# EAGLE library part 68HC05B6 (library my_mixed)
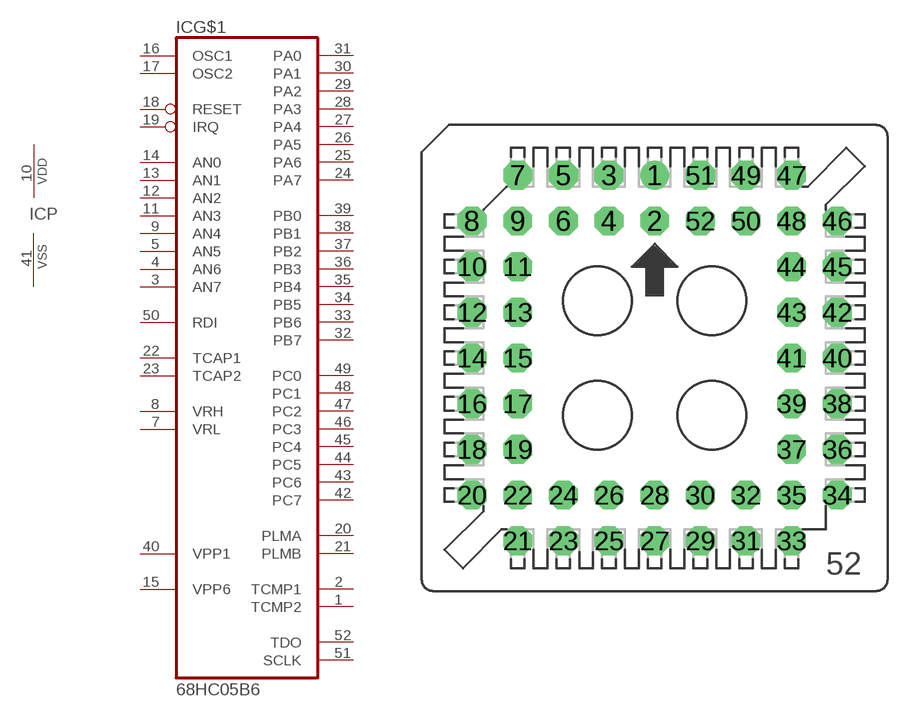
[diagram p34: symbol with the pads of S52; footprint S52]

Designator prefix IC; gates G$1=68HC05B6 P=VDDVSS

## 68HC05B6  [S52]
1  G$1:TCMP2  out
2  G$1:TCMP1  out
3  G$1:AN7  in
4  G$1:AN6  in
5  G$1:AN5  in
7  G$1:VRL  in
8  G$1:VRH  in
9  G$1:AN4  in
10  P:VDD  pwr
11  G$1:AN3  in
12  G$1:AN2  in
13  G$1:AN1  in
14  G$1:AN0  in
15  G$1:VPP6  pwr
16  G$1:OSC1  in
17  G$1:OSC2  pas
18  G$1:RESET
19  G$1:IRQ  in
20  G$1:PLMA  out
21  G$1:PLMB  out
22  G$1:TCAP1  in
23  G$1:TCAP2  in
24  G$1:PA7
25  G$1:PA6
26  G$1:PA5
27  G$1:PA4
28  G$1:PA3
29  G$1:PA2
30  G$1:PA1
31  G$1:PA0
32  G$1:PB7
33  G$1:PB6
34  G$1:PB5
35  G$1:PB4
36  G$1:PB3
37  G$1:PB2
38  G$1:PB1
39  G$1:PB0
40  G$1:VPP1  pwr
41  P:VSS  pwr
42  G$1:PC7
43  G$1:PC6
44  G$1:PC5
45  G$1:PC4
46  G$1:PC3
47  G$1:PC2
48  G$1:PC1
49  G$1:PC0
50  G$1:RDI  in
51  G$1:SCLK  out
52  G$1:TDO  out

## Footprint S52 (pad centres in mm)
drill 0.406 pad 1.6: 1 0,10.16
drill 0.406 pad 1.6 octagon: 2 0,7.62; 3 -2.54,10.16; 4 -2.54,7.62; 5 -5.08,10.16; 6 -5.08,7.62; 7 -7.62,10.16; 8 -10.16,7.62; 9 -7.62,7.62; 10 -10.16,5.08; 11 -7.62,5.08; 12 -10.16,2.54; 13 -7.62,2.54; 14 -10.16,0; 15 -7.62,0; 16 -10.16,-2.54; 17 -7.62,-2.54; 18 -10.16,-5.08; 19 -7.62,-5.08; 20 -10.16,-7.62; 21 -7.62,-10.16; 22 -7.62,-7.62; 23 -5.08,-10.16; 24 -5.08,-7.62; 25 -2.54,-10.16; 26 -2.54,-7.62; 27 0,-10.16; 28 0,-7.62; 29 2.54,-10.16; 30 2.54,-7.62; 31 5.08,-10.16; 32 5.08,-7.62; 33 7.62,-10.16; 34 10.16,-7.62; 35 7.62,-7.62; 36 10.16,-5.08; 37 7.62,-5.08; 38 10.16,-2.54; 39 7.62,-2.54; 40 10.16,0; 41 7.62,0; 42 10.16,2.54; 43 7.62,2.54; 44 7.62,5.08; 45 10.16,5.08; 46 10.16,7.62; 47 7.62,10.16; 48 7.62,7.62; 49 5.08,10.16; 50 5.08,7.62; 51 2.54,10.16; 52 2.54,7.62